# Altium footprint library tpd6e05u06rvzr.PcbLib: 1 footprints
Each footprint in its own frame and in the unit in brackets; x right, y up, seen from the top. Pads: shape width x height; smd on the part's side, far side on the other; paste and mask are expansions set on the pad; w line width, h text height; cw(c..) or ccw(c..) is an arc to the next point about the centre after c.
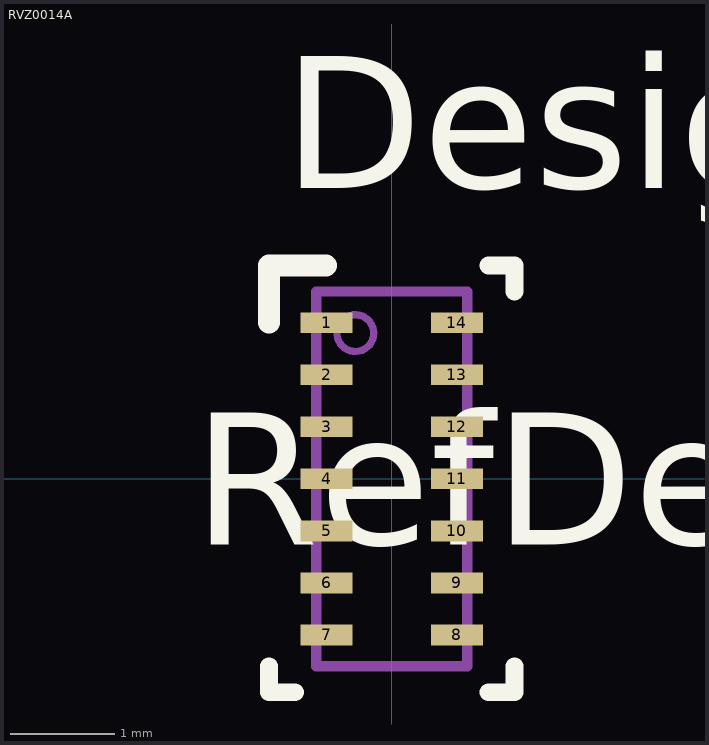
[diagram p0: the footprint, top view; thin cyan lines are the x and y axes]

## RVZ0014A [mm]
pads (14):
  rect 0.5x0.2 smd paste+0 mask+0.051: 1(-0.625,1.5) 2(-0.625,1) 3(-0.625,0.5) 4(-0.625,0) 5(-0.625,-0.5) 6(-0.625,-1) 7(-0.625,-1.5) 8(0.625,-1.5) 9(0.625,-1) 10(0.625,-0.5) 11(0.625,0) 12(0.625,0.5) 13(0.625,1) 14(0.625,1.5)
Top Overlay:
  lines w0.17: -1.18,-1.8 -1.18,-2.05 -0.93,-2.05 ; 0.93,-2.05 1.18,-2.05 1.18,-1.8 ; 0.93,2.05 1.18,2.05 1.18,1.8
  lines w0.21: -1.18,1.5 -1.18,2.05 -0.63,2.05
  text "Designator156" at -1.041,2.794 h1.27
  text "RefDes" at -1.905,-0.635 h1.27
Mechanical 13:
  circle w0.07: c-0.35,1.4 r0.177
  lines w0.1: -0.725,-1.8 -0.725,1.8 0.725,1.8 0.725,-1.8 -0.725,-1.8
3D body "TPD6E05U06RVZ.step": height 0.53, standoff 0, extent -1270.675,-1271.737 -1269.325,-1268.263